# Altium footprint library TjsADLib.PcbLib: 21 footprints (part 2 of 2)
Each footprint in its own frame and in the unit in brackets; x right, y up, seen from the top. Pads: shape width x height; smd on the part's side, far side on the other; paste and mask are expansions set on the pad; w line width, h text height; cw(c..) or ccw(c..) is an arc to the next point about the centre after c.
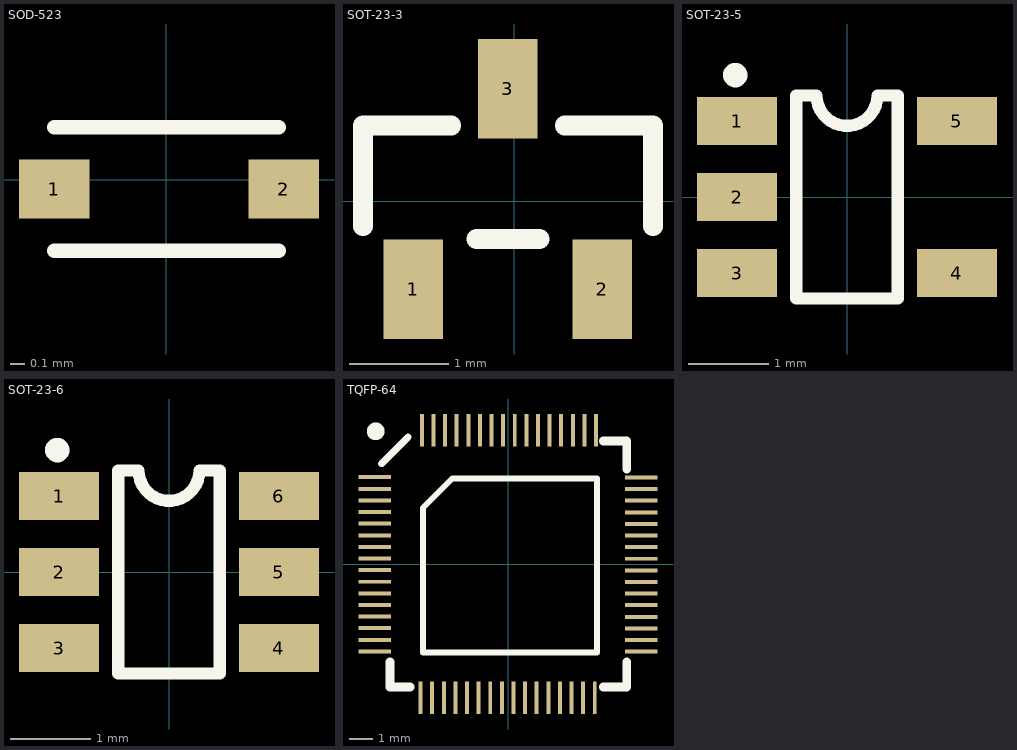
[diagram p1: the footprints below, top view; thin cyan lines are the x and y axes]

## SOD-523 [mm]
pads (2):
  rect 0.48x0.4 smd: 1(-0.762,-0.064) 2(0.798,-0.064)
Top Overlay:
  lines w0.1: -0.762,-0.483 0.762,-0.483 ; -0.762,0.356 0.762,0.356

## SOT-23-3 [mm]
pads (3):
  rect 0.6x1 smd: 1(-1.016,-0.889) 2(0.884,-0.889) 3(-0.066,1.131)
Top Overlay:
  lines w0.2: -1.524,-0.254 -1.524,0.762 -0.635,0.762 ; -0.381,-0.381 0.254,-0.381 ; 0.508,0.762 1.397,0.762 1.397,-0.254

## SOT-23-5 [mm]
pads (5):
  rect 1x0.6 smd paste+0 mask+0.051: 1(-1.375,0.95) 2(-1.375,0) 3(-1.375,-0.95) 4(1.375,-0.95) 5(1.375,0.95)
Top Overlay:
  circle w0.254: c-1.397,1.524 r0.025
  lines w0.152: -0.635,-1.27 0.635,-1.27 0.635,1.27 0.381,1.27 cw(c0,1.27) -0.381,1.27 -0.635,1.27 -0.635,-1.27

## SOT-23-6 [mm]
pads (6):
  rect 1x0.6 smd paste+0 mask+0.051: 1(-1.375,0.95) 2(-1.375,0) 3(-1.375,-0.95) 4(1.375,-0.95) 5(1.375,0) 6(1.375,0.95)
Top Overlay:
  circle w0.254: c-1.397,1.524 r0.025
  lines w0.152: -0.635,-1.27 0.635,-1.27 0.635,1.27 0.381,1.27 cw(c0,1.27) -0.381,1.27 -0.635,1.27 -0.635,-1.27

## TQFP-64 [mm]
height 1.2
pads (64):
  rect 1.4x0.17 smd: 1(-5.762,3.75) 2(-5.761,3.235) 3(-5.761,2.735) 4(-5.761,2.235) 5(-5.761,1.735) 6(-5.761,1.235) 7(-5.761,0.735) 8(-5.761,0.235) 9(-5.761,-0.265) 10(-5.761,-0.765) 11(-5.761,-1.265) 12(-5.761,-1.765) 13(-5.761,-2.265) 14(-5.761,-2.765) 15(-5.761,-3.265) 16(-5.761,-3.765) 33(5.728,-3.774) 34(5.728,-3.274) 35(5.728,-2.774) 36(5.728,-2.274) 37(5.728,-1.774) 38(5.728,-1.274) 39(5.728,-0.774) 40(5.728,-0.274) 41(5.728,0.226) 42(5.728,0.726) 43(5.728,1.226) 44(5.728,1.726) 45(5.728,2.226) 46(5.728,2.726) 47(5.728,3.226) 48(5.728,3.726)
  rect 0.17x1.4 smd: 17(-3.781,-5.761) 18(-3.281,-5.761) 19(-2.781,-5.761) 20(-2.281,-5.761) 21(-1.781,-5.761) 22(-1.281,-5.761) 23(-0.781,-5.761) 24(-0.281,-5.761) 25(0.219,-5.761) 26(0.719,-5.761) 27(1.219,-5.761) 28(1.719,-5.761) 29(2.219,-5.761) 30(2.719,-5.761) 31(3.219,-5.761) 32(3.719,-5.761) 49(3.774,5.761) 50(3.274,5.761) 51(2.774,5.761) 52(2.274,5.761) 53(1.774,5.761) 54(1.274,5.761) 55(0.774,5.761) 56(0.274,5.761) 57(-0.226,5.761) 58(-0.726,5.761) 59(-1.226,5.761) 60(-1.726,5.761) 61(-2.226,5.761) 62(-2.726,5.761) 63(-3.226,5.761) 64(-3.726,5.761)
Top Overlay:
  circle w0.508: c-5.715,5.715 r0.127
  lines w0.254: -3.683,-3.81 3.81,-3.81 3.81,3.683 -2.413,3.683 -3.683,2.413 -3.683,-3.81
  lines w0.3: -5.461,4.318 -4.318,5.461
  lines w0.381: -5.1,-4.211 -5.1,-5.3 -4.225,-5.3 ; 4.098,-5.3 5.1,-5.3 5.1,-4.211 ; 4.098,5.3 5.1,5.3 5.1,4.084